# Altium schematic symbol library Gym_rep_counter.SchLib: 7 symbols
Pins are listed as number, name and electrical type; pins without a type are passive.

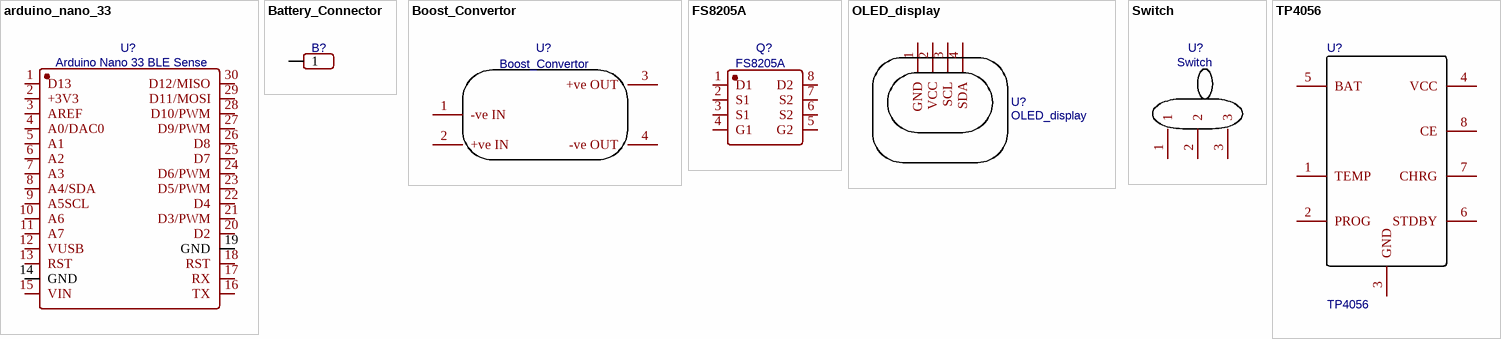
[diagram p0: symbols arduino_nano_33 to TP4056]

## arduino_nano_33
designator U?, comment Arduino Nano 33 BLE Sense
Manufacturer Part: Barcode: 7630049201507; Contributor: RedCoal; Manufacturer: Arduino; Supplier: Arduino store; Supplier Part: ABX00031; link: https://store-usa.arduino.cc/products/arduino-nano-33-ble-sense?selectedStore=us; Datasheet: https://docs.arduino.cc/resources/datasheets/ABX00031-datasheet.pdf?_gl=1*1n6zooy*_ga*NzA1NzIyOTE4LjE2MzUzMjI4MjI.*_ga_NEXN8H46L5*MTY0MjgyNzE0Ni40LjEuMTY0MjgyNzE2Ny4w; spicePre: U; spiceSymbolName: Arduino Nano 33 BLE Sense
footprint arduino_nano_33
pins: 1 D13, 2 +3V3, 3 AREF, 4 A0/DAC0, 5 A1, 6 A2, 7 A3, 8 A4/SDA, 9 A5SCL, 10 A6, 11 A7, 12 VUSB, 13 RST, 14 GND, 15 VIN, 16 TX, 17 RX, 18 RST, 19 GND, 20 D2, 21 D3/PWM, 22 D4, 23 D5/PWM, 24 D6/PWM, 25 D7, 26 D8, 27 D9/PWM, 28 D10/PWM, 29 D11/MOSI, 30 D12/MISO

## Battery_Connector
designator B?, comment Header-Male-2.54_1x1  (value not drawn)
Manufacturer: ReliaPro; Supplier Part: C81276; Supplier: LCSC; Manufacturer Part: Header-Male-2.54_1x1; spicePre: P
footprint Battery_connector
pins: 1

## Boost_Convertor
designator U?
Contributor: Shyam Ravi; spicePre: U; spiceSymbolName: Boost_Convertor
footprint BOOST_CONVERTER
pins: 1 -ve IN, 2 +ve IN, 3 +ve OUT, 4 -ve OUT

## FS8205A
designator Q?
Manufacturer: FORTUNE; SMT Type: Basic; Supplier: LCSC; Manufacturer Part: FS8205A; LCSC Assembly: Yes; image: //image.lceda.cn/szlcsc/C16052.jpg; Supplier Part: C16052; spicePre: Q; spiceSymbolName: FS8205A
footprint TSSOP-8_L4.4-W3.5-P0.65-LS6.4-BL
pins: 1 D1, 2 S1, 3 S1, 4 G1, 5 G2, 6 S2, 7 S2, 8 D2

## OLED_display
designator U?
Contributor: shyamganeshravi2003; spicePre: U; spiceSymbolName: OLED_display
footprint OLED_DISPLAY
pins: 1 GND, 2 VCC, 3 SCL, 4 SDA

## Switch
designator U?
Contributor: Shyam Ravi; spicePre: U; spiceSymbolName: Switch
footprint SWITCH
pins: 1, 2, 3

## TP4056
designator U?
Manufacturer: TOPPOWER; Contributor: Guest; Supplier: LCSC; Manufacturer Part: TP4056; LCSC Assembly: Yes; image: //image.lceda.cn/szlcsc/C16581.jpg; Supplier Part: C16581; spicePre: U
footprint TP4056
pins: 1 TEMP, 2 PROG, 3 GND, 4 VCC, 5 BAT, 6 STDBY, 7 CHRG, 8 CE